# Altium footprint library con-molex-micro-fit-3_0 (1).PCBLIB: 194 footprints (part 4 of 13)
Each footprint in its own frame and in the unit in brackets; x right, y up, seen from the top. Pads: shape width x height; smd on the part's side, far side on the other; paste and mask are expansions set on the pad; w line width, h text height; cw(c..) or ccw(c..) is an arc to the next point about the centre after c.
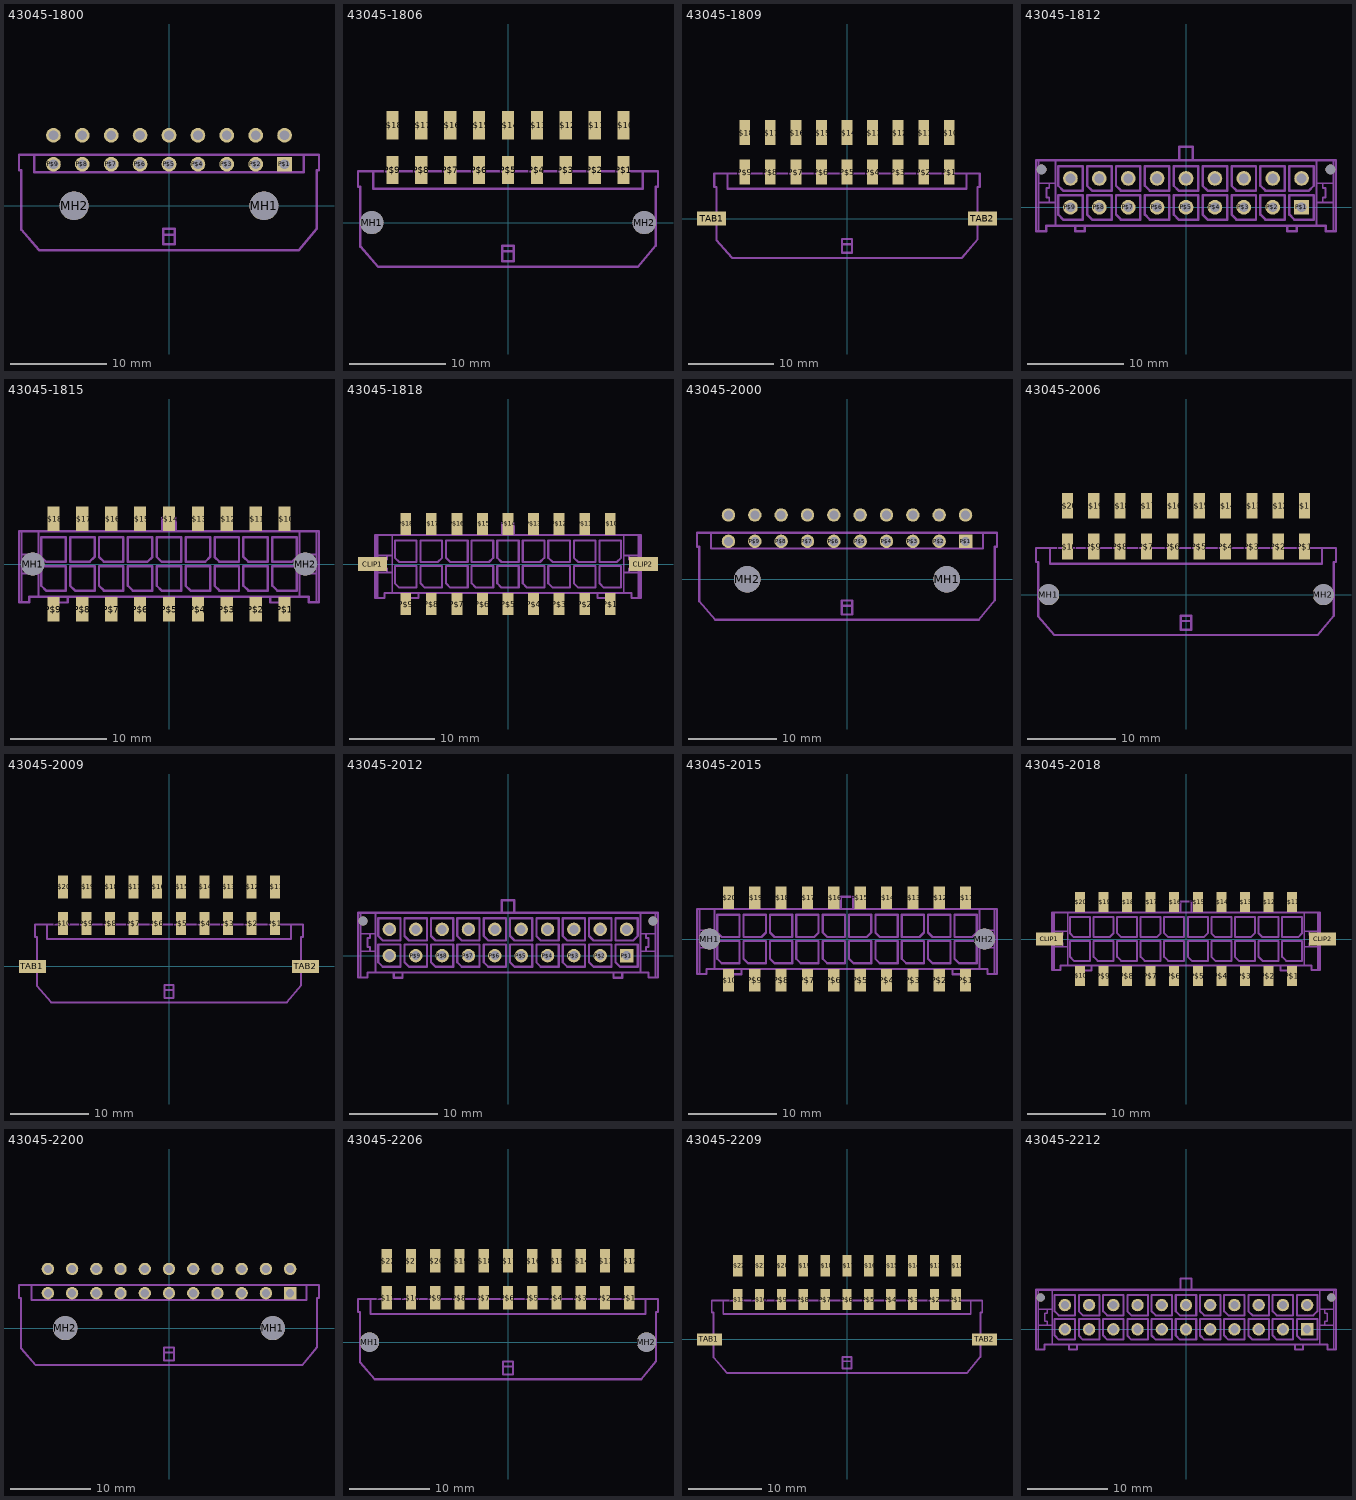
[diagram p3: the footprints below, top view; thin cyan lines are the x and y axes]

## 43045-1800 [mm]
pads (20):
  round 3 hole 3 unplated: MH1(9.85,0) MH2(-9.85,0)
  rect 1.53x1.53 / inner round 1.414 / far side rect 1.53x1.53 hole 1.02: P$1(12,4.32)
  round 1.53 hole 1.02: P$2(9,4.32) P$3(6,4.32) P$4(3,4.32) P$5(0,4.32) P$6(-3,4.32) P$7(-6,4.32) P$8(-9,4.32) P$9(-12,4.32) P$10(12,7.32) P$11(9,7.32) P$12(6,7.32) P$13(3,7.32) P$14(0,7.32) P$15(-3,7.32) P$16(-6,7.32) P$17(-9,7.32) P$18(-12,7.32)
tPlace:
  lines w0.127: -4.83,5.31 -14,5.31 -4.825,5.31
  lines w0.254: -14,5.31 -15.575,5.31 -15.575,3.71 -15.325,3.71 -15.325,-2.5 -13.5,-4.6 13.5,-4.6 15.325,-2.4 15.325,3.71 15.575,3.71 15.575,5.31 14,5.31 ; -14,5.31 14,5.31 ; -14,5.31 -14,3.5 14,3.5 14,5.31 ; -0.6,-3 -0.6,-4 0.6,-4 0.6,-3 ; -0.6,-3 -0.6,-2.4 0.6,-2.4 0.6,-3 ; -0.6,-3 0.6,-3

## 43045-1806 [mm]
pads (20):
  round 2.41 hole 2.41 unplated: MH1(-14.15,0) MH2(14.15,0)
  rect 1.27x2.92 smd: P$1(12,5.47) P$2(9,5.47) P$3(6,5.47) P$4(3,5.47) P$5(0,5.47) P$6(-3,5.47) P$7(-6,5.47) P$8(-9,5.47) P$9(-12,5.47) P$10(12,10.1) P$11(9,10.1) P$12(6,10.1) P$13(3,10.1) P$14(0,10.1) P$15(-3,10.1) P$16(-6,10.1) P$17(-9,10.1) P$18(-12,10.1)
tPlace:
  lines w0.127: -4.83,5.31 -14,5.31 -4.825,5.31
  lines w0.254: -14,5.31 -15.575,5.31 -15.575,3.71 -15.325,3.71 -15.325,-2.5 -13.5,-4.6 13.5,-4.6 15.325,-2.4 15.325,3.71 15.575,3.71 15.575,5.31 14,5.31 ; -14,5.31 14,5.31 ; -14,5.31 -14,3.5 14,3.5 14,5.31 ; -0.6,-3 -0.6,-4 0.6,-4 0.6,-3 ; -0.6,-3 -0.6,-2.4 0.6,-2.4 0.6,-3 ; -0.6,-3 0.6,-3

## 43045-1809 [mm]
pads (20):
  rect 1.27x2.92 smd: P$1(12,5.47) P$2(9,5.47) P$3(6,5.47) P$4(3,5.47) P$5(0,5.47) P$6(-3,5.47) P$7(-6,5.47) P$8(-9,5.47) P$9(-12,5.47) P$10(12,10.1) P$11(9,10.1) P$12(6,10.1) P$13(3,10.1) P$14(0,10.1) P$15(-3,10.1) P$16(-6,10.1) P$17(-9,10.1) P$18(-12,10.1)
  rect 3.43x1.65 smd: TAB1(-15.88,0) TAB2(15.88,0)
tPlace:
  lines w0.127: -4.83,5.31 -14,5.31 -4.825,5.31
  lines w0.254: -14,5.31 -15.575,5.31 -15.575,3.71 -15.325,3.71 -15.325,-2.5 -13.5,-4.6 13.5,-4.6 15.325,-2.4 15.325,3.71 15.575,3.71 15.575,5.31 14,5.31 ; -14,5.31 14,5.31 ; -14,5.31 -14,3.5 14,3.5 14,5.31 ; -0.6,-3 -0.6,-4 0.6,-4 0.6,-3 ; -0.6,-3 -0.6,-2.4 0.6,-2.4 0.6,-3 ; -0.6,-3 0.6,-3

## 43045-1812 [mm]
pads (20):
  round 1.02 hole 1.02 unplated: MH1(15,3.94) MH2(-15,3.94)
  rect 1.53x1.53 / inner round 1.414 / far side rect 1.53x1.53 hole 1.02: P$1(12,0)
  round 1.53 hole 1.02: P$2(9,0) P$3(6,0) P$4(3,0) P$5(0,0) P$6(-3,0) P$7(-6,0) P$8(-9,0) P$9(-12,0) P$10(12,3) P$11(9,3) P$12(6,3) P$13(3,3) P$14(0,3) P$15(-3,3) P$16(-6,3) P$17(-9,3) P$18(-12,3)
tPlace:
  lines w0.2: -15.3,-2.47 -15.3,0.5 ; -15.3,4.9 -15.3,2.5 ; -13.57,-1.9 -13.57,0.5 ; -13.57,4.9 -13.57,2.5 ; 13.57,-1.9 13.57,0.5 ; 13.57,4.9 13.57,2.5 ; 15.3,-2.47 15.3,0.5 ; 15.3,4.9 15.3,2.5 ; -15.3,0.5 -15.3,2.5 ; -15.3,0.5 -14.2,0.5 ; -15.3,2.5 -14.2,2.5 ; -14.2,0.5 -13.57,0.5 ; -14.2,0.5 -14.2,1 -14.5,1 -14.5,2 -14.2,2 -14.2,2.5 ; -14.2,2.5 -13.57,2.5 ; -13.57,0.5 -13.57,2.5 ; 13.57,0.5 13.57,2.5 ; 13.57,0.5 14.2,0.5 ; 13.57,2.5 14.2,2.5 ; 14.2,0.5 15.3,0.5 ; 14.2,0.5 14.2,1 14.5,1 14.5,2 14.2,2 14.2,2.5 ; 14.2,2.5 15.3,2.5 ; 15.3,0.5 15.3,2.5
  lines w0.254: -11.5,-1.9 -10.5,-1.9 ; -11.5,-1.9 -13.57,-1.9 -14.5,-1.9 -14.5,-2.47 -15.3,-2.47 -15.575,-2.47 -15.575,4.9 -15.3,4.9 -13.57,4.9 -0.7,4.9 ; -11.5,-1.9 -11.5,-2.5 -10.5,-2.5 -10.5,-1.9 ; -10.5,-1.9 10.5,-1.9 ; -0.7,4.9 0.7,4.9 ; -0.7,4.9 -0.7,6.3 0.7,6.3 0.7,4.9 ; 0.7,4.9 13.57,4.9 15.3,4.9 15.575,4.9 15.575,-2.47 15.3,-2.47 14.5,-2.47 14.5,-1.9 13.57,-1.9 11.5,-1.9 ; 10.5,-1.9 11.5,-1.9 ; 10.5,-1.9 10.5,-2.5 11.5,-2.5 11.5,-1.9 ; -13.27,-0.762 -13.27,1.27 -10.73,1.27 -10.73,-1.27 -12.762,-1.27 -13.27,-0.762 ; -13.27,2.238 -13.27,4.27 -10.73,4.27 -10.73,1.73 -12.762,1.73 -13.27,2.238 ; -10.27,-0.762 -10.27,1.27 -7.73,1.27 -7.73,-1.27 -9.762,-1.27 -10.27,-0.762 ; -10.27,2.238 -10.27,4.27 -7.73,4.27 -7.73,1.73 -9.762,1.73 -10.27,2.238 ; -7.27,-0.762 -7.27,1.27 -4.73,1.27 -4.73,-1.27 -6.762,-1.27 -7.27,-0.762 ; -7.27,2.238 -7.27,4.27 -4.73,4.27 -4.73,1.73 -6.762,1.73 -7.27,2.238 ; -4.27,-0.762 -4.27,1.27 -1.73,1.27 -1.73,-1.27 -3.762,-1.27 -4.27,-0.762 ; -4.27,2.238 -4.27,4.27 -1.73,4.27 -1.73,1.73 -3.762,1.73 -4.27,2.238 ; -1.27,-0.762 -1.27,1.27 1.27,1.27 1.27,-1.27 -0.762,-1.27 -1.27,-0.762 ; -1.27,2.238 -1.27,4.27 1.27,4.27 1.27,1.73 -0.762,1.73 -1.27,2.238 ; 1.73,-0.762 1.73,1.27 4.27,1.27 4.27,-1.27 2.238,-1.27 1.73,-0.762 ; 1.73,2.238 1.73,4.27 4.27,4.27 4.27,1.73 2.238,1.73 1.73,2.238 ; 4.73,-0.762 4.73,1.27 7.27,1.27 7.27,-1.27 5.238,-1.27 4.73,-0.762 ; 4.73,2.238 4.73,4.27 7.27,4.27 7.27,1.73 5.238,1.73 4.73,2.238 ; 7.73,-0.762 7.73,1.27 10.27,1.27 10.27,-1.27 8.238,-1.27 7.73,-0.762 ; 7.73,2.238 7.73,4.27 10.27,4.27 10.27,1.73 8.238,1.73 7.73,2.238 ; 10.73,-0.762 10.73,1.27 13.27,1.27 13.27,-1.27 11.238,-1.27 10.73,-0.762
bPlace:
  lines w0.254: 10.73,1.73 10.73,4.27 13.27,4.27 13.27,2.238 12.762,1.73 10.73,1.73

## 43045-1815 [mm]
pads (20):
  round 2.41 hole 2.41 unplated: MH1(-14.15,0) MH2(14.15,0)
  rect 1.27x2.54 smd: P$1(12,-4.7) P$2(9,-4.7) P$3(6,-4.7) P$4(3,-4.7) P$5(0,-4.7) P$6(-3,-4.7) P$7(-6,-4.7) P$8(-9,-4.7) P$9(-12,-4.7) P$10(12,4.7) P$11(9,4.7) P$12(6,4.7) P$13(3,4.7) P$14(0,4.7) P$15(-3,4.7) P$16(-6,4.7) P$17(-9,4.7) P$18(-12,4.7)
tPlace:
  lines w0.2: -15.3,-3.97 -15.3,-1 ; -15.3,3.4 -15.3,1 ; -13.57,-3.4 -13.57,-1 ; -13.57,3.4 -13.57,1 ; 13.57,-3.4 13.57,-1 ; 13.57,3.4 13.57,1 ; 15.3,-3.97 15.3,-1 ; 15.3,3.4 15.3,1 ; -15.3,-1 -15.3,1 ; -15.3,-1 -14.2,-1 ; -15.3,1 -14.2,1 ; -14.2,-1 -13.57,-1 ; -14.2,-1 -14.2,-0.5 -14.5,-0.5 -14.5,0.5 -14.2,0.5 -14.2,1 ; -14.2,1 -13.57,1 ; -13.57,-1 -13.57,1 ; 13.57,-1 13.57,1 ; 13.57,-1 14.2,-1 ; 13.57,1 14.2,1 ; 14.2,-1 15.3,-1 ; 14.2,-1 14.2,-0.5 14.5,-0.5 14.5,0.5 14.2,0.5 14.2,1 ; 14.2,1 15.3,1 ; 15.3,-1 15.3,1
  lines w0.254: -11.5,-3.4 -10.5,-3.4 ; -11.5,-3.4 -13.57,-3.4 -14.5,-3.4 -14.5,-3.97 -15.3,-3.97 -15.575,-3.97 -15.575,3.4 -15.3,3.4 -13.57,3.4 -0.7,3.4 ; -11.5,-3.4 -11.5,-4 -10.5,-4 -10.5,-3.4 ; -10.5,-3.4 10.5,-3.4 ; -0.7,3.4 0.7,3.4 ; -0.7,3.4 -0.7,4.8 0.7,4.8 0.7,3.4 ; 0.7,3.4 13.57,3.4 15.3,3.4 15.575,3.4 15.575,-3.97 15.3,-3.97 14.5,-3.97 14.5,-3.4 13.57,-3.4 11.5,-3.4 ; 10.5,-3.4 11.5,-3.4 ; 10.5,-3.4 10.5,-4 11.5,-4 11.5,-3.4 ; -13.27,-2.262 -13.27,-0.23 -10.73,-0.23 -10.73,-2.77 -12.762,-2.77 -13.27,-2.262 ; -13.27,0.738 -13.27,2.77 -10.73,2.77 -10.73,0.23 -12.762,0.23 -13.27,0.738 ; -10.27,-2.262 -10.27,-0.23 -7.73,-0.23 -7.73,-2.77 -9.762,-2.77 -10.27,-2.262 ; -7.27,-2.262 -7.27,-0.23 -4.73,-0.23 -4.73,-2.77 -6.762,-2.77 -7.27,-2.262 ; -7.27,0.738 -7.27,2.77 -4.73,2.77 -4.73,0.23 -6.762,0.23 -7.27,0.738 ; -4.27,-2.262 -4.27,-0.23 -1.73,-0.23 -1.73,-2.77 -3.762,-2.77 -4.27,-2.262 ; -1.27,-2.262 -1.27,-0.23 1.27,-0.23 1.27,-2.77 -0.762,-2.77 -1.27,-2.262 ; -1.27,0.738 -1.27,2.77 1.27,2.77 1.27,0.23 -0.762,0.23 -1.27,0.738 ; 1.73,-2.262 1.73,-0.23 4.27,-0.23 4.27,-2.77 2.238,-2.77 1.73,-2.262 ; 4.73,-2.262 4.73,-0.23 7.27,-0.23 7.27,-2.77 5.238,-2.77 4.73,-2.262 ; 4.73,0.738 4.73,2.77 7.27,2.77 7.27,0.23 5.238,0.23 4.73,0.738 ; 7.73,-2.262 7.73,-0.23 10.27,-0.23 10.27,-2.77 8.238,-2.77 7.73,-2.262 ; 7.73,0.738 7.73,2.77 10.27,2.77 10.27,0.23 8.238,0.23 7.73,0.738 ; 10.73,-2.262 10.73,-0.23 13.27,-0.23 13.27,-2.77 11.238,-2.77 10.73,-2.262
bPlace:
  lines w0.254: -10.27,0.23 -10.27,2.77 -7.73,2.77 -7.73,0.738 -8.238,0.23 -10.27,0.23 ; -4.27,0.23 -4.27,2.77 -1.73,2.77 -1.73,0.738 -2.238,0.23 -4.27,0.23 ; 1.73,0.23 1.73,2.77 4.27,2.77 4.27,0.738 3.762,0.23 1.73,0.23 ; 10.73,0.23 10.73,2.77 13.27,2.77 13.27,0.738 12.762,0.23 10.73,0.23

## 43045-1818 [mm]
pads (20):
  rect 3.43x1.65 smd: CLIP1(-15.88,0) CLIP2(15.88,0)
  rect 1.27x2.54 smd: P$1(12,-4.7) P$2(9,-4.7) P$3(6,-4.7) P$4(3,-4.7) P$5(0,-4.7) P$6(-3,-4.7) P$7(-6,-4.7) P$8(-9,-4.7) P$9(-12,-4.7) P$10(12,4.7) P$11(9,4.7) P$12(6,4.7) P$13(3,4.7) P$14(0,4.7) P$15(-3,4.7) P$16(-6,4.7) P$17(-9,4.7) P$18(-12,4.7)
tPlace:
  lines w0.2: -15.3,-3.97 -15.3,-1 ; -15.3,3.4 -15.3,1 ; -13.57,-3.4 -13.57,-1 ; -13.57,3.4 -13.57,1 ; 13.57,-3.4 13.57,-1 ; 13.57,3.4 13.57,1 ; 15.3,-3.97 15.3,-1 ; 15.3,3.4 15.3,1 ; -15.3,-1 -15.3,1 ; -15.3,-1 -14.2,-1 ; -15.3,1 -14.2,1 ; -14.2,-1 -13.57,-1 ; -14.2,-1 -14.2,-0.5 -14.5,-0.5 -14.5,0.5 -14.2,0.5 -14.2,1 ; -14.2,1 -13.57,1 ; -13.57,-1 -13.57,1 ; 13.57,-1 13.57,1 ; 13.57,-1 14.2,-1 ; 13.57,1 14.2,1 ; 14.2,-1 15.3,-1 ; 14.2,-1 14.2,-0.5 14.5,-0.5 14.5,0.5 14.2,0.5 14.2,1 ; 14.2,1 15.3,1 ; 15.3,-1 15.3,1
  lines w0.254: -11.5,-3.4 -10.5,-3.4 ; -11.5,-3.4 -13.57,-3.4 -14.5,-3.4 -14.5,-3.97 -15.3,-3.97 -15.575,-3.97 -15.575,3.4 -15.3,3.4 -13.57,3.4 -0.7,3.4 ; -11.5,-3.4 -11.5,-4 -10.5,-4 -10.5,-3.4 ; -10.5,-3.4 10.5,-3.4 ; -0.7,3.4 0.7,3.4 ; -0.7,3.4 -0.7,4.8 0.7,4.8 0.7,3.4 ; 0.7,3.4 13.57,3.4 15.3,3.4 15.575,3.4 15.575,-3.97 15.3,-3.97 14.5,-3.97 14.5,-3.4 13.57,-3.4 11.5,-3.4 ; 10.5,-3.4 11.5,-3.4 ; 10.5,-3.4 10.5,-4 11.5,-4 11.5,-3.4 ; -13.27,-2.262 -13.27,-0.23 -10.73,-0.23 -10.73,-2.77 -12.762,-2.77 -13.27,-2.262 ; -13.27,0.738 -13.27,2.77 -10.73,2.77 -10.73,0.23 -12.762,0.23 -13.27,0.738 ; -10.27,-2.262 -10.27,-0.23 -7.73,-0.23 -7.73,-2.77 -9.762,-2.77 -10.27,-2.262 ; -7.27,-2.262 -7.27,-0.23 -4.73,-0.23 -4.73,-2.77 -6.762,-2.77 -7.27,-2.262 ; -7.27,0.738 -7.27,2.77 -4.73,2.77 -4.73,0.23 -6.762,0.23 -7.27,0.738 ; -4.27,-2.262 -4.27,-0.23 -1.73,-0.23 -1.73,-2.77 -3.762,-2.77 -4.27,-2.262 ; -1.27,-2.262 -1.27,-0.23 1.27,-0.23 1.27,-2.77 -0.762,-2.77 -1.27,-2.262 ; -1.27,0.738 -1.27,2.77 1.27,2.77 1.27,0.23 -0.762,0.23 -1.27,0.738 ; 1.73,-2.262 1.73,-0.23 4.27,-0.23 4.27,-2.77 2.238,-2.77 1.73,-2.262 ; 4.73,-2.262 4.73,-0.23 7.27,-0.23 7.27,-2.77 5.238,-2.77 4.73,-2.262 ; 4.73,0.738 4.73,2.77 7.27,2.77 7.27,0.23 5.238,0.23 4.73,0.738 ; 7.73,-2.262 7.73,-0.23 10.27,-0.23 10.27,-2.77 8.238,-2.77 7.73,-2.262 ; 7.73,0.738 7.73,2.77 10.27,2.77 10.27,0.23 8.238,0.23 7.73,0.738 ; 10.73,-2.262 10.73,-0.23 13.27,-0.23 13.27,-2.77 11.238,-2.77 10.73,-2.262
bPlace:
  lines w0.254: -10.27,0.23 -10.27,2.77 -7.73,2.77 -7.73,0.738 -8.238,0.23 -10.27,0.23 ; -4.27,0.23 -4.27,2.77 -1.73,2.77 -1.73,0.738 -2.238,0.23 -4.27,0.23 ; 1.73,0.23 1.73,2.77 4.27,2.77 4.27,0.738 3.762,0.23 1.73,0.23 ; 10.73,0.23 10.73,2.77 13.27,2.77 13.27,0.738 12.762,0.23 10.73,0.23

## 43045-2000 [mm]
pads (22):
  round 3 hole 3 unplated: MH1(11.35,0) MH2(-11.35,0)
  rect 1.53x1.53 / inner round 1.414 / far side rect 1.53x1.53 hole 1.02: P$1(13.5,4.32)
  round 1.53 hole 1.02: P$2(10.5,4.32) P$3(7.5,4.32) P$4(4.5,4.32) P$5(1.5,4.32) P$6(-1.5,4.32) P$7(-4.5,4.32) P$8(-7.5,4.32) P$9(-10.5,4.32) P$10(-13.5,4.32) P$11(13.5,7.32) P$12(10.5,7.32) P$13(7.5,7.32) P$14(4.5,7.32) P$15(1.5,7.32) P$16(-1.5,7.32) P$17(-4.5,7.32) P$18(-7.5,7.32) P$19(-10.5,7.32) P$20(-13.5,7.32)
tPlace:
  lines w0.127: -4.83,5.31 -15.5,5.31 -4.825,5.31
  lines w0.254: -15.5,5.31 -17.08,5.31 -17.08,3.71 -16.825,3.71 -16.825,-2.5 -15,-4.6 15,-4.6 16.825,-2.4 16.825,3.71 17.08,3.71 17.08,5.31 15.5,5.31 ; -15.5,5.31 15.5,5.31 ; -15.5,5.31 -15.5,3.5 15.5,3.5 15.5,5.31 ; -0.6,-3 -0.6,-4 0.6,-4 0.6,-3 ; -0.6,-3 -0.6,-2.4 0.6,-2.4 0.6,-3 ; -0.6,-3 0.6,-3

## 43045-2006 [mm]
pads (22):
  round 2.41 hole 2.41 unplated: MH1(-15.65,0) MH2(15.65,0)
  rect 1.27x2.92 smd: P$1(13.5,5.47) P$2(10.5,5.47) P$3(7.5,5.47) P$4(4.5,5.47) P$5(1.5,5.47) P$6(-1.5,5.47) P$7(-4.5,5.47) P$8(-7.5,5.47) P$9(-10.5,5.47) P$10(-13.5,5.47) P$11(13.5,10.1) P$12(10.5,10.1) P$13(7.5,10.1) P$14(4.5,10.1) P$15(1.5,10.1) P$16(-1.5,10.1) P$17(-4.5,10.1) P$18(-7.5,10.1) P$19(-10.5,10.1) P$20(-13.5,10.1)
tPlace:
  lines w0.127: -4.83,5.31 -15.5,5.31 -4.825,5.31
  lines w0.254: -15.5,5.31 -17.08,5.31 -17.08,3.71 -16.825,3.71 -16.825,-2.5 -15,-4.6 15,-4.6 16.825,-2.4 16.825,3.71 17.08,3.71 17.08,5.31 15.5,5.31 ; -15.5,5.31 15.5,5.31 ; -15.5,5.31 -15.5,3.5 15.5,3.5 15.5,5.31 ; -0.6,-3 -0.6,-4 0.6,-4 0.6,-3 ; -0.6,-3 -0.6,-2.4 0.6,-2.4 0.6,-3 ; -0.6,-3 0.6,-3

## 43045-2009 [mm]
pads (22):
  rect 1.27x2.92 smd: P$1(13.5,5.47) P$2(10.5,5.47) P$3(7.5,5.47) P$4(4.5,5.47) P$5(1.5,5.47) P$6(-1.5,5.47) P$7(-4.5,5.47) P$8(-7.5,5.47) P$9(-10.5,5.47) P$10(-13.5,5.47) P$11(13.5,10.1) P$12(10.5,10.1) P$13(7.5,10.1) P$14(4.5,10.1) P$15(1.5,10.1) P$16(-1.5,10.1) P$17(-4.5,10.1) P$18(-7.5,10.1) P$19(-10.5,10.1) P$20(-13.5,10.1)
  rect 3.43x1.65 smd: TAB1(-17.38,0) TAB2(17.38,0)
tPlace:
  lines w0.127: -4.83,5.31 -15.5,5.31 -4.825,5.31
  lines w0.254: -15.5,5.31 -17.08,5.31 -17.08,3.71 -16.825,3.71 -16.825,-2.5 -15,-4.6 15,-4.6 16.825,-2.4 16.825,3.71 17.08,3.71 17.08,5.31 15.5,5.31 ; -15.5,5.31 15.5,5.31 ; -15.5,5.31 -15.5,3.5 15.5,3.5 15.5,5.31 ; -0.6,-3 -0.6,-4 0.6,-4 0.6,-3 ; -0.6,-3 -0.6,-2.4 0.6,-2.4 0.6,-3 ; -0.6,-3 0.6,-3

## 43045-2012 [mm]
pads (22):
  round 1.02 hole 1.02 unplated: MH1(16.5,3.94) MH2(-16.5,3.94)
  rect 1.53x1.53 / inner round 1.414 / far side rect 1.53x1.53 hole 1.02: P$1(13.5,0)
  round 1.53 hole 1.02: P$2(10.5,0) P$3(7.5,0) P$4(4.5,0) P$5(1.5,0) P$6(-1.5,0) P$7(-4.5,0) P$8(-7.5,0) P$9(-10.5,0) P$10(-13.5,0) P$11(13.5,3) P$12(10.5,3) P$13(7.5,3) P$14(4.5,3) P$15(1.5,3) P$16(-1.5,3) P$17(-4.5,3) P$18(-7.5,3) P$19(-10.5,3) P$20(-13.5,3)
tPlace:
  drawing of 156 lines, arcs and shapes, not listed
bPlace:
  lines w0.254: 12.23,1.73 12.23,4.27 14.77,4.27 14.77,2.238 14.262,1.73 12.23,1.73

## 43045-2015 [mm]
pads (22):
  round 2.41 hole 2.41 unplated: MH1(-15.65,0) MH2(15.65,0)
  rect 1.27x2.54 smd: P$1(13.5,-4.7) P$2(10.5,-4.7) P$3(7.5,-4.7) P$4(4.5,-4.7) P$5(1.5,-4.7) P$6(-1.5,-4.7) P$7(-4.5,-4.7) P$8(-7.5,-4.7) P$9(-10.5,-4.7) P$10(-13.5,-4.7) P$11(13.5,4.7) P$12(10.5,4.7) P$13(7.5,4.7) P$14(4.5,4.7) P$15(1.5,4.7) P$16(-1.5,4.7) P$17(-4.5,4.7) P$18(-7.5,4.7) P$19(-10.5,4.7) P$20(-13.5,4.7)
tPlace:
  lines w0.2: -16.8,-3.97 -16.8,-1 ; -16.8,3.4 -16.8,1 ; -15.07,-3.4 -15.07,-1 ; -15.07,3.4 -15.07,1 ; 15.07,-3.4 15.07,-1 ; 15.07,3.4 15.07,1 ; 16.8,-3.97 16.8,-1 ; 16.8,3.4 16.8,1 ; -16.8,-1 -16.8,1 ; -16.8,-1 -15.7,-1 ; -16.8,1 -15.7,1 ; -15.7,-1 -15.07,-1 ; -15.7,-1 -15.7,-0.5 -16,-0.5 -16,0.5 -15.7,0.5 -15.7,1 ; -15.7,1 -15.07,1 ; -15.07,-1 -15.07,1 ; 15.07,-1 15.07,1 ; 15.07,-1 15.7,-1 ; 15.07,1 15.7,1 ; 15.7,-1 16.8,-1 ; 15.7,-1 15.7,-0.5 16,-0.5 16,0.5 15.7,0.5 15.7,1 ; 15.7,1 16.8,1 ; 16.8,-1 16.8,1
  lines w0.254: -13,-3.4 -12,-3.4 ; -13,-3.4 -15.07,-3.4 -16,-3.4 -16,-3.97 -16.8,-3.97 -17.075,-3.97 -17.075,3.4 -16.8,3.4 -15.07,3.4 -0.7,3.4 ; -13,-3.4 -13,-4 -12,-4 -12,-3.4 ; -12,-3.4 12,-3.4 ; -0.7,3.4 0.7,3.4 ; -0.7,3.4 -0.7,4.8 0.7,4.8 0.7,3.4 ; 0.7,3.4 15.07,3.4 16.8,3.4 17.075,3.4 17.075,-3.97 16.8,-3.97 16,-3.97 16,-3.4 15.07,-3.4 13,-3.4 ; 12,-3.4 13,-3.4 ; 12,-3.4 12,-4 13,-4 13,-3.4 ; -14.77,-2.262 -14.77,-0.23 -12.23,-0.23 -12.23,-2.77 -14.262,-2.77 -14.77,-2.262 ; -14.77,0.738 -14.77,2.77 -12.23,2.77 -12.23,0.23 -14.262,0.23 -14.77,0.738 ; -11.77,-2.262 -11.77,-0.23 -9.23,-0.23 -9.23,-2.77 -11.262,-2.77 -11.77,-2.262 ; -8.77,-2.262 -8.77,-0.23 -6.23,-0.23 -6.23,-2.77 -8.262,-2.77 -8.77,-2.262 ; -8.77,0.738 -8.77,2.77 -6.23,2.77 -6.23,0.23 -8.262,0.23 -8.77,0.738 ; -5.77,-2.262 -5.77,-0.23 -3.23,-0.23 -3.23,-2.77 -5.262,-2.77 -5.77,-2.262 ; -2.77,-2.262 -2.77,-0.23 -0.23,-0.23 -0.23,-2.77 -2.262,-2.77 -2.77,-2.262 ; -2.77,0.738 -2.77,2.77 -0.23,2.77 -0.23,0.23 -2.262,0.23 -2.77,0.738 ; 0.23,-2.262 0.23,-0.23 2.77,-0.23 2.77,-2.77 0.738,-2.77 0.23,-2.262 ; 3.23,-2.262 3.23,-0.23 5.77,-0.23 5.77,-2.77 3.738,-2.77 3.23,-2.262 ; 3.23,0.738 3.23,2.77 5.77,2.77 5.77,0.23 3.738,0.23 3.23,0.738 ; 6.23,-2.262 6.23,-0.23 8.77,-0.23 8.77,-2.77 6.738,-2.77 6.23,-2.262 ; 9.23,-2.262 9.23,-0.23 11.77,-0.23 11.77,-2.77 9.738,-2.77 9.23,-2.262 ; 9.23,0.738 9.23,2.77 11.77,2.77 11.77,0.23 9.738,0.23 9.23,0.738 ; 12.23,-2.262 12.23,-0.23 14.77,-0.23 14.77,-2.77 12.738,-2.77 12.23,-2.262
bPlace:
  lines w0.254: -11.77,0.23 -11.77,2.77 -9.23,2.77 -9.23,0.738 -9.738,0.23 -11.77,0.23 ; -5.77,0.23 -5.77,2.77 -3.23,2.77 -3.23,0.738 -3.738,0.23 -5.77,0.23 ; 0.23,0.23 0.23,2.77 2.77,2.77 2.77,0.738 2.262,0.23 0.23,0.23 ; 6.23,0.23 6.23,2.77 8.77,2.77 8.77,0.738 8.262,0.23 6.23,0.23 ; 12.23,0.23 12.23,2.77 14.77,2.77 14.77,0.738 14.262,0.23 12.23,0.23

## 43045-2018 [mm]
pads (22):
  rect 3.43x1.65 smd: CLIP1(-17.38,0) CLIP2(17.38,0)
  rect 1.27x2.54 smd: P$1(13.5,-4.7) P$2(10.5,-4.7) P$3(7.5,-4.7) P$4(4.5,-4.7) P$5(1.5,-4.7) P$6(-1.5,-4.7) P$7(-4.5,-4.7) P$8(-7.5,-4.7) P$9(-10.5,-4.7) P$10(-13.5,-4.7) P$11(13.5,4.7) P$12(10.5,4.7) P$13(7.5,4.7) P$14(4.5,4.7) P$15(1.5,4.7) P$16(-1.5,4.7) P$17(-4.5,4.7) P$18(-7.5,4.7) P$19(-10.5,4.7) P$20(-13.5,4.7)
tPlace:
  lines w0.2: -16.8,-3.97 -16.8,-1 ; -16.8,3.4 -16.8,1 ; -15.07,-3.4 -15.07,-1 ; -15.07,3.4 -15.07,1 ; 15.07,-3.4 15.07,-1 ; 15.07,3.4 15.07,1 ; 16.8,-3.97 16.8,-1 ; 16.8,3.4 16.8,1 ; -16.8,-1 -16.8,1 ; -16.8,-1 -15.7,-1 ; -16.8,1 -15.7,1 ; -15.7,-1 -15.07,-1 ; -15.7,-1 -15.7,-0.5 -16,-0.5 -16,0.5 -15.7,0.5 -15.7,1 ; -15.7,1 -15.07,1 ; -15.07,-1 -15.07,1 ; 15.07,-1 15.07,1 ; 15.07,-1 15.7,-1 ; 15.07,1 15.7,1 ; 15.7,-1 16.8,-1 ; 15.7,-1 15.7,-0.5 16,-0.5 16,0.5 15.7,0.5 15.7,1 ; 15.7,1 16.8,1 ; 16.8,-1 16.8,1
  lines w0.254: -13,-3.4 -12,-3.4 ; -13,-3.4 -15.07,-3.4 -16,-3.4 -16,-3.97 -16.8,-3.97 -17.075,-3.97 -17.075,3.4 -16.8,3.4 -15.07,3.4 -0.7,3.4 ; -13,-3.4 -13,-4 -12,-4 -12,-3.4 ; -12,-3.4 12,-3.4 ; -0.7,3.4 0.7,3.4 ; -0.7,3.4 -0.7,4.8 0.7,4.8 0.7,3.4 ; 0.7,3.4 15.07,3.4 16.8,3.4 17.075,3.4 17.075,-3.97 16.8,-3.97 16,-3.97 16,-3.4 15.07,-3.4 13,-3.4 ; 12,-3.4 13,-3.4 ; 12,-3.4 12,-4 13,-4 13,-3.4 ; -14.77,-2.262 -14.77,-0.23 -12.23,-0.23 -12.23,-2.77 -14.262,-2.77 -14.77,-2.262 ; -14.77,0.738 -14.77,2.77 -12.23,2.77 -12.23,0.23 -14.262,0.23 -14.77,0.738 ; -11.77,-2.262 -11.77,-0.23 -9.23,-0.23 -9.23,-2.77 -11.262,-2.77 -11.77,-2.262 ; -8.77,-2.262 -8.77,-0.23 -6.23,-0.23 -6.23,-2.77 -8.262,-2.77 -8.77,-2.262 ; -8.77,0.738 -8.77,2.77 -6.23,2.77 -6.23,0.23 -8.262,0.23 -8.77,0.738 ; -5.77,-2.262 -5.77,-0.23 -3.23,-0.23 -3.23,-2.77 -5.262,-2.77 -5.77,-2.262 ; -2.77,-2.262 -2.77,-0.23 -0.23,-0.23 -0.23,-2.77 -2.262,-2.77 -2.77,-2.262 ; -2.77,0.738 -2.77,2.77 -0.23,2.77 -0.23,0.23 -2.262,0.23 -2.77,0.738 ; 0.23,-2.262 0.23,-0.23 2.77,-0.23 2.77,-2.77 0.738,-2.77 0.23,-2.262 ; 3.23,-2.262 3.23,-0.23 5.77,-0.23 5.77,-2.77 3.738,-2.77 3.23,-2.262 ; 3.23,0.738 3.23,2.77 5.77,2.77 5.77,0.23 3.738,0.23 3.23,0.738 ; 6.23,-2.262 6.23,-0.23 8.77,-0.23 8.77,-2.77 6.738,-2.77 6.23,-2.262 ; 9.23,-2.262 9.23,-0.23 11.77,-0.23 11.77,-2.77 9.738,-2.77 9.23,-2.262 ; 9.23,0.738 9.23,2.77 11.77,2.77 11.77,0.23 9.738,0.23 9.23,0.738 ; 12.23,-2.262 12.23,-0.23 14.77,-0.23 14.77,-2.77 12.738,-2.77 12.23,-2.262
bPlace:
  lines w0.254: -11.77,0.23 -11.77,2.77 -9.23,2.77 -9.23,0.738 -9.738,0.23 -11.77,0.23 ; -5.77,0.23 -5.77,2.77 -3.23,2.77 -3.23,0.738 -3.738,0.23 -5.77,0.23 ; 0.23,0.23 0.23,2.77 2.77,2.77 2.77,0.738 2.262,0.23 0.23,0.23 ; 6.23,0.23 6.23,2.77 8.77,2.77 8.77,0.738 8.262,0.23 6.23,0.23 ; 12.23,0.23 12.23,2.77 14.77,2.77 14.77,0.738 14.262,0.23 12.23,0.23

## 43045-2200 [mm]
pads (24):
  round 3 hole 3 unplated: MH1(12.85,0) MH2(-12.85,0)
  rect 1.53x1.53 / inner round 1.414 / far side rect 1.53x1.53 hole 1.02: P$1(15,4.32)
  round 1.53 hole 1.02: P$2(12,4.32) P$3(9,4.32) P$4(6,4.32) P$5(3,4.32) P$6(0,4.32) P$7(-3,4.32) P$8(-6,4.32) P$9(-9,4.32) P$10(-12,4.32) P$11(-15,4.32) P$12(15,7.32) P$13(12,7.32) P$14(9,7.32) P$15(6,7.32) P$16(3,7.32) P$17(0,7.32) P$18(-3,7.32) P$19(-6,7.32) P$20(-9,7.32) P$21(-12,7.32) P$22(-15,7.32)
tPlace:
  lines w0.127: -4.83,5.31 -17,5.31 -4.825,5.31
  lines w0.254: -17,5.31 -18.575,5.31 -18.575,3.71 -18.325,3.71 -18.325,-2.5 -16.5,-4.6 16.5,-4.6 18.325,-2.4 18.325,3.71 18.575,3.71 18.575,5.31 17,5.31 ; -17,5.31 17,5.31 ; -17,5.31 -17,3.5 17,3.5 17,5.31 ; -0.6,-3 -0.6,-4 0.6,-4 0.6,-3 ; -0.6,-3 -0.6,-2.4 0.6,-2.4 0.6,-3 ; -0.6,-3 0.6,-3

## 43045-2206 [mm]
pads (24):
  round 2.41 hole 2.41 unplated: MH1(-17.15,0) MH2(17.15,0)
  rect 1.27x2.92 smd: P$1(15,5.47) P$2(12,5.47) P$3(9,5.47) P$4(6,5.47) P$5(3,5.47) P$6(0,5.47) P$7(-3,5.47) P$8(-6,5.47) P$9(-9,5.47) P$10(-12,5.47) P$11(-15,5.47) P$12(15,10.1) P$13(12,10.1) P$14(9,10.1) P$15(6,10.1) P$16(3,10.1) P$17(0,10.1) P$18(-3,10.1) P$19(-6,10.1) P$20(-9,10.1) P$21(-12,10.1) P$22(-15,10.1)
tPlace:
  lines w0.127: -4.83,5.31 -17,5.31 -4.825,5.31
  lines w0.254: -17,5.31 -18.575,5.31 -18.575,3.71 -18.325,3.71 -18.325,-2.5 -16.5,-4.6 16.5,-4.6 18.325,-2.4 18.325,3.71 18.575,3.71 18.575,5.31 17,5.31 ; -17,5.31 17,5.31 ; -17,5.31 -17,3.5 17,3.5 17,5.31 ; -0.6,-3 -0.6,-4 0.6,-4 0.6,-3 ; -0.6,-3 -0.6,-2.4 0.6,-2.4 0.6,-3 ; -0.6,-3 0.6,-3

## 43045-2209 [mm]
pads (24):
  rect 1.27x2.92 smd: P$1(15,5.47) P$2(12,5.47) P$3(9,5.47) P$4(6,5.47) P$5(3,5.47) P$6(0,5.47) P$7(-3,5.47) P$8(-6,5.47) P$9(-9,5.47) P$10(-12,5.47) P$11(-15,5.47) P$12(15,10.1) P$13(12,10.1) P$14(9,10.1) P$15(6,10.1) P$16(3,10.1) P$17(0,10.1) P$18(-3,10.1) P$19(-6,10.1) P$20(-9,10.1) P$21(-12,10.1) P$22(-15,10.1)
  rect 3.43x1.65 smd: TAB1(-18.88,0) TAB2(18.88,0)
tPlace:
  lines w0.127: -4.83,5.31 -17,5.31 -4.825,5.31
  lines w0.254: -17,5.31 -18.575,5.31 -18.575,3.71 -18.325,3.71 -18.325,-2.5 -16.5,-4.6 16.5,-4.6 18.325,-2.4 18.325,3.71 18.575,3.71 18.575,5.31 17,5.31 ; -17,5.31 17,5.31 ; -17,5.31 -17,3.5 17,3.5 17,5.31 ; -0.6,-3 -0.6,-4 0.6,-4 0.6,-3 ; -0.6,-3 -0.6,-2.4 0.6,-2.4 0.6,-3 ; -0.6,-3 0.6,-3

## 43045-2212 [mm]
pads (24):
  round 1.02 hole 1.02 unplated: MH1(18,3.94) MH2(-18,3.94)
  rect 1.53x1.53 / inner round 1.414 / far side rect 1.53x1.53 hole 1.02: P$1(15,0)
  round 1.53 hole 1.02: P$2(12,0) P$3(9,0) P$4(6,0) P$5(3,0) P$6(0,0) P$7(-3,0) P$8(-6,0) P$9(-9,0) P$10(-12,0) P$11(-15,0) P$12(15,3) P$13(12,3) P$14(9,3) P$15(6,3) P$16(3,3) P$17(0,3) P$18(-3,3) P$19(-6,3) P$20(-9,3) P$21(-12,3) P$22(-15,3)
tPlace:
  drawing of 166 lines, arcs and shapes, not listed
bPlace:
  lines w0.254: 13.73,1.73 13.73,4.27 16.27,4.27 16.27,2.238 15.762,1.73 13.73,1.73